# EAGLE library part MAX30102 (library MAX30102)
High-Sensitivity Pulse Oximeter and Heart-Rate Sensor for Wearable Health
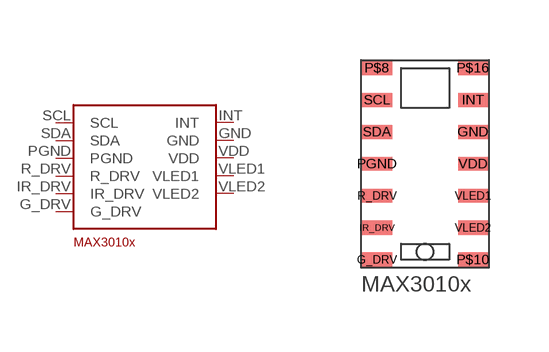
[diagram p0: symbol with the pads of MAX30102; footprint MAX30102]

Designator prefix -

## MAX30102  [MAX30102]
G_DRV  G_DRV
GND  GND
INT  INT
IR_DRV  IR_DRV
PGND  PGND
R_DRV  R_DRV
SCL  SCL
SDA  SDA
VDD  VDD
VLED1  VLED1
VLED2  VLED2

## Footprint MAX30102 (pad centres in mm)
smd 0.75 x 0.35: G_DRV 0,0.8; GND 2.4,4; INT 2.4,4.8; IR_DRV 0,1.6; P$8 0,5.6; P$10 2.4,0.8; P$16 2.4,5.6; PGND 0,3.2; R_DRV 0,2.4; SCL 0,4.8; SDA 0,4; VDD 2.4,3.2; VLED1 2.4,2.4; VLED2 2.4,1.6